# Altium schematic symbol library ACS712ELCTR.Schlib: 1 symbol
Pins are listed as number, name and electrical type; pins without a type are passive.

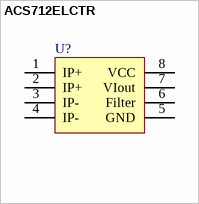
[diagram p0: symbol ACS712ELCTR]

## ACS712ELCTR
designator U?
Allegro Hall Effect Sensor 5V
pins: 1 IP+, 2 IP+, 3 IP-, 4 IP-, 5 GND, 6 Filter, 7 VIout, 8 VCC